# Altium footprint library IO-testing-mezzanine.PcbLib: 12 footprints
Each footprint in its own frame and in the unit in brackets; x right, y up, seen from the top. Pads: shape width x height; smd on the part's side, far side on the other; paste and mask are expansions set on the pad; w line width, h text height; cw(c..) or ccw(c..) is an arc to the next point about the centre after c.
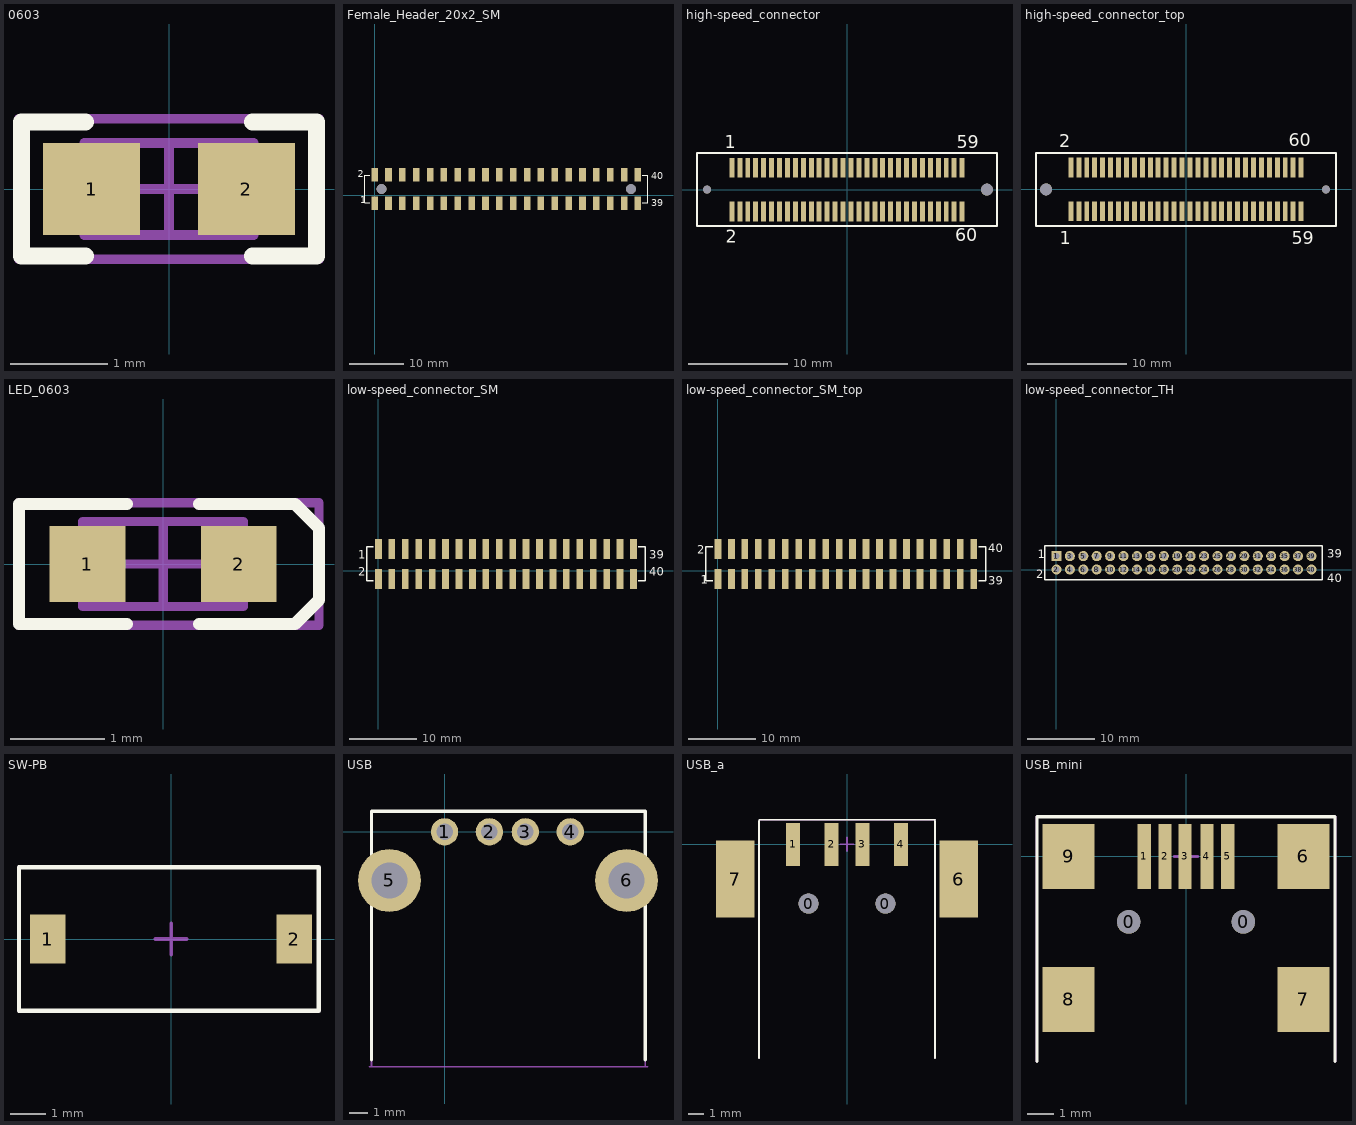
[diagram p0: the footprints below, top view; thin cyan lines are the x and y axes]

## 0603 [mm]
pads (2):
  rect 1x0.95 smd: 1(-0.8,0) 2(0.8,0)
Top Overlay:
  lines w0.178: -0.864,-0.691 -1.524,-0.691 -1.524,0.693 -0.864,0.693 ; 0.864,-0.691 1.524,-0.691 1.524,0.693 0.864,0.693
Mechanical 5:
  lines w0.1: -1.55,-0.725 -1.55,0.725 1.55,0.725 1.55,-0.725 -1.55,-0.725
  text ".Designator" at 0.508,0.381 h0.76
Mechanical 13:
  lines w0.1: -0.55,-0.475 -0.55,0.475 ; 0.55,-0.475 0.55,0.475 ; -0.875,-0.475 0.875,-0.475 0.875,0.475 -0.875,0.475 -0.875,-0.475
Mechanical 15:
  lines w0.1: -0.475,0 0.475,0 ; 0,-0.475 0,0.475 ; -1.55,-0.725 1.55,-0.725 1.55,0.725 -1.55,0.725 -1.55,-0.725
3D body: height 0.85, standoff 0, extent -0.874,-0.474 -0.551,0.474
3D body: height 0.85, standoff 0, extent -0.549,-0.474 0.549,0.474
3D body: height 0.85, standoff 0, extent 0.551,-0.474 0.874,0.474

## Female_Header_20x2_SM [mm] "Surface mount Female header / 2.54mm pitch"
pads (42):
  rect 1.2x2.5 smd: 1(0,-1.5) 2(0,3.76) 3(2.54,-1.5) 4(2.54,3.76) 5(5.08,-1.5) 6(5.08,3.76) 7(7.62,-1.5) 8(7.62,3.76) 9(10.16,-1.5) 10(10.16,3.76) 11(12.7,-1.5) 12(12.7,3.76) 13(15.24,-1.5) 14(15.24,3.76) 15(17.78,-1.5) 16(17.78,3.76) 17(20.32,-1.5) 18(20.32,3.76) 19(22.86,-1.5) 20(22.86,3.76) 21(25.4,-1.5) 22(25.4,3.76) 23(27.94,-1.5) 24(27.94,3.76) 25(30.48,-1.5) 26(30.48,3.76) 27(33.02,-1.5) 28(33.02,3.76) 29(35.56,-1.5) 30(35.56,3.76) 31(38.1,-1.5) 32(38.1,3.76) 33(40.64,-1.5) 34(40.64,3.76) 35(43.18,-1.5) 36(43.18,3.76) 37(45.72,-1.5) 38(45.72,3.76) 39(48.26,-1.5) 40(48.26,3.76)
  round 1.8 hole 1.8 unplated: ""(1.27,1.13) ""(46.99,1.11)
Top Overlay:
  lines w0.2: -0.92,3.683 -1.778,3.683 -1.778,-1.397 -0.87,-1.397 ; 49.09,-1.397 50.038,-1.397 50.038,3.683 49.09,3.683
  text "2" at -3.048,3.302 h1.27
  text "40" at 50.673,2.921 h1.27
  text "39" at 50.673,-2.032 h1.27
  text "1" at -2.667,-1.524 h1.27
3D body "m20-7812045_asm.stp": height 3.55, standoff -1.4, extent -1.27,-2.457 49.53,4.743

## high-speed_connector [mm] "high-speed connector"
pads (62):
  rect 0.5x2 smd: 1(-11.6,2.2) 2(-11.6,-2.2) 3(-10.8,2.2) 4(-10.8,-2.2) 5(-10,2.2) 6(-10,-2.2) 7(-9.2,2.2) 8(-9.2,-2.2) 9(-8.4,2.2) 10(-8.4,-2.2) 11(-7.6,2.2) 12(-7.6,-2.2) 13(-6.8,2.2) 14(-6.8,-2.2) 15(-6,2.2) 16(-6,-2.2) 17(-5.2,2.2) 18(-5.2,-2.2) 19(-4.4,2.2) 20(-4.4,-2.2) 21(-3.6,2.2) 22(-3.6,-2.2) 23(-2.8,2.2) 24(-2.8,-2.2) 25(-2,2.2) 26(-2,-2.2) 27(-1.2,2.2) 28(-1.2,-2.2) 29(-0.4,2.2) 30(-0.4,-2.2) 31(0.4,2.2) 32(0.4,-2.2) 33(1.2,2.2) 34(1.2,-2.2) 35(2,2.2) 36(2,-2.2) 37(2.8,2.2) 38(2.8,-2.2) 39(3.6,2.2) 40(3.6,-2.2) 41(4.4,2.2) 42(4.4,-2.2) 43(5.2,2.2) 44(5.2,-2.2) 45(6,2.2) 46(6,-2.2) 47(6.8,2.2) 48(6.8,-2.2) 49(7.6,2.2) 50(7.6,-2.2) 51(8.4,2.2) 52(8.4,-2.2) 53(9.2,2.2) 54(9.2,-2.2) 55(10,2.2) 56(10,-2.2) 57(10.8,2.2) 58(10.8,-2.2) 59(11.6,2.2) 60(11.6,-2.2)
  round 0.8 hole 0.8 unplated: ""(-14.1,0)
  round 1.2 hole 1.2 unplated: ""(14.1,0)
Top Overlay:
  lines w0.2: -15.113,-3.683 -15.113,3.683 15.113,3.683 15.113,-3.683 -15.113,-3.683
  text "1" at -12.319,4.191 h1.27
  text "59" at 11.049,4.191 h1.27
  text "60" at 10.922,-5.207 h1.27
  text "2" at -12.192,-5.334 h1.27
3D body "s61083-064x0xxx.stp": height 7.65, standoff -0.7, extent -14.9,-3 14.9,3

## high-speed_connector_top [mm] "high-speed connector"
pads (62):
  rect 0.5x2 smd: 1(-11.6,-2.2) 2(-11.6,2.2) 3(-10.8,-2.2) 4(-10.8,2.2) 5(-10,-2.2) 6(-10,2.2) 7(-9.2,-2.2) 8(-9.2,2.2) 9(-8.4,-2.2) 10(-8.4,2.2) 11(-7.6,-2.2) 12(-7.6,2.2) 13(-6.8,-2.2) 14(-6.8,2.2) 15(-6,-2.2) 16(-6,2.2) 17(-5.2,-2.2) 18(-5.2,2.2) 19(-4.4,-2.2) 20(-4.4,2.2) 21(-3.6,-2.2) 22(-3.6,2.2) 23(-2.8,-2.2) 24(-2.8,2.2) 25(-2,-2.2) 26(-2,2.2) 27(-1.2,-2.2) 28(-1.2,2.2) 29(-0.4,-2.2) 30(-0.4,2.2) 31(0.4,-2.2) 32(0.4,2.2) 33(1.2,-2.2) 34(1.2,2.2) 35(2,-2.2) 36(2,2.2) 37(2.8,-2.2) 38(2.8,2.2) 39(3.6,-2.2) 40(3.6,2.2) 41(4.4,-2.2) 42(4.4,2.2) 43(5.2,-2.2) 44(5.2,2.2) 45(6,-2.2) 46(6,2.2) 47(6.8,-2.2) 48(6.8,2.2) 49(7.6,-2.2) 50(7.6,2.2) 51(8.4,-2.2) 52(8.4,2.2) 53(9.2,-2.2) 54(9.2,2.2) 55(10,-2.2) 56(10,2.2) 57(10.8,-2.2) 58(10.8,2.2) 59(11.6,-2.2) 60(11.6,2.2)
  round 1.2 hole 1.2 unplated: ""(-14.1,0)
  round 0.8 hole 0.8 unplated: ""(14.1,0)
Top Overlay:
  lines w0.2: -15.113,-3.683 15.113,-3.683 15.113,3.683 -15.113,3.683 -15.113,-3.683
  text "2" at -12.782,4.236 h1.27
  text "60" at 10.332,4.363 h1.27
  text "59" at 10.659,-5.549 h1.27
  text "1" at -12.709,-5.549 h1.27
3D body "s61082-062x0xxx.stp": height 7.65, standoff -0.7, extent -14.9,-3.38 14.9,3.42

## LED_0603 [mm] "Chip LED, 2-Leads, Body 1.6x0.8mm, IPC Medium Density"
height 0.68
pads (2):
  rect 0.8x0.8 smd: 1(-0.8,0) 2(0.8,0)
Top Overlay:
  lines w0.127: -0.381,-0.635 -1.524,-0.635 -1.524,0.635 -0.381,0.635 ; 0.381,-0.635 1.397,-0.635 1.651,-0.381 1.651,0.381 1.397,0.635 0.381,0.635
Mechanical 13:
  lines w0.1: -0.85,-0.45 0.85,-0.45 0.85,0.45 -0.85,0.45 -0.85,-0.45
Mechanical 15:
  lines w0.1: -0.45,0 0.45,0 ; 0,-0.45 0,0.45 ; -1.525,-0.65 1.651,-0.65 1.651,0.65 -1.525,0.65 -1.525,-0.65
3D body "WL-SMCW_0603_LED.stp": height 0.7, standoff 0, extent -0.8,-0.4 0.8,0.4

## low-speed_connector_SM [mm] "Surface mount low-speed connector / 2mm pitch"
pads (40):
  rect 1x3 smd: 1(0,3.25) 2(0,-1.25) 3(2,3.25) 4(2,-1.25) 5(4,3.25) 6(4,-1.25) 7(6,3.25) 8(6,-1.25) 9(8,3.25) 10(8,-1.25) 11(10,3.25) 12(10,-1.25) 13(12,3.25) 14(12,-1.25) 15(14,3.25) 16(14,-1.25) 17(16,3.25) 18(16,-1.25) 19(18,3.25) 20(18,-1.25) 21(20,3.25) 22(20,-1.25) 23(22,3.25) 24(22,-1.25) 25(24,3.25) 26(24,-1.25) 27(26,3.25) 28(26,-1.25) 29(28,3.25) 30(28,-1.25) 31(30,3.25) 32(30,-1.25) 33(32,3.25) 34(32,-1.25) 35(34,3.25) 36(34,-1.25) 37(36,3.25) 38(36,-1.25) 39(38,3.25) 40(38,-1.25)
Top Overlay:
  lines w0.2: -0.762,-1.524 -1.778,-1.524 -1.778,3.556 -0.762,3.556 ; 38.735,-1.524 39.751,-1.524 39.751,3.556 38.735,3.556
  text "2" at -3.048,-0.762 h1.27
  text "40" at 40.386,-0.762 h1.27
  text "39" at 40.386,1.778 h1.27
  text "1" at -3.048,1.778 h1.27
3D body: height 0.5, standoff 0, extent 37.746,1.758 38.254,4.298
3D body: height 6, standoff 0, extent 37.746,1.778 38.254,2.286
3D body: height 0.5, standoff 0, extent 37.746,-2.286 38.254,0.254
3D body: height 6, standoff 0, extent 37.746,-0.254 38.254,0.254
3D body: height 0.5, standoff 0, extent 35.746,1.758 36.254,4.298
3D body: height 6, standoff 0, extent 35.746,1.778 36.254,2.286
3D body: height 0.5, standoff 0, extent 35.746,-2.286 36.254,0.254
3D body: height 6, standoff 0, extent 35.746,-0.254 36.254,0.254
3D body: height 0.5, standoff 0, extent 33.746,1.758 34.254,4.298
3D body: height 6, standoff 0, extent 33.746,1.778 34.254,2.286
3D body: height 0.5, standoff 0, extent 33.746,-2.286 34.254,0.254
3D body: height 6, standoff 0, extent 33.746,-0.254 34.254,0.254
3D body: height 0.5, standoff 0, extent 31.746,1.758 32.254,4.298
3D body: height 6, standoff 0, extent 31.746,1.778 32.254,2.286
3D body: height 0.5, standoff 0, extent 31.746,-2.286 32.254,0.254
3D body: height 6, standoff 0, extent 31.746,-0.254 32.254,0.254
3D body: height 0.5, standoff 0, extent 29.746,1.758 30.254,4.298
3D body: height 6, standoff 0, extent 29.746,1.778 30.254,2.286
3D body: height 0.5, standoff 0, extent 29.746,-2.286 30.254,0.254
3D body: height 6, standoff 0, extent 29.746,-0.254 30.254,0.254
3D body: height 0.5, standoff 0, extent 27.746,1.758 28.254,4.298
3D body: height 6, standoff 0, extent 27.746,1.778 28.254,2.286
3D body: height 0.5, standoff 0, extent 27.746,-2.286 28.254,0.254
3D body: height 6, standoff 0, extent 27.746,-0.254 28.254,0.254
3D body: height 0.5, standoff 0, extent 25.746,1.758 26.254,4.298
3D body: height 6, standoff 0, extent 25.746,1.778 26.254,2.286
3D body: height 0.5, standoff 0, extent 25.746,-2.286 26.254,0.254
3D body: height 6, standoff 0, extent 25.746,-0.254 26.254,0.254
3D body: height 0.5, standoff 0, extent 23.746,1.758 24.254,4.298
3D body: height 6, standoff 0, extent 23.746,1.778 24.254,2.286
3D body: height 0.5, standoff 0, extent 23.746,-2.286 24.254,0.254
3D body: height 6, standoff 0, extent 23.746,-0.254 24.254,0.254
3D body: height 0.5, standoff 0, extent 21.746,1.758 22.254,4.298
3D body: height 6, standoff 0, extent 21.746,1.778 22.254,2.286
3D body: height 0.5, standoff 0, extent 21.746,-2.286 22.254,0.254
3D body: height 6, standoff 0, extent 21.746,-0.254 22.254,0.254
3D body: height 0.5, standoff 0, extent 19.746,1.758 20.254,4.298
3D body: height 6, standoff 0, extent 19.746,1.778 20.254,2.286
3D body: height 0.5, standoff 0, extent 19.746,-2.286 20.254,0.254
3D body: height 6, standoff 0, extent 19.746,-0.254 20.254,0.254
3D body: height 0.5, standoff 0, extent 17.746,1.758 18.254,4.298
3D body: height 6, standoff 0, extent 17.746,1.778 18.254,2.286
3D body: height 0.5, standoff 0, extent 17.746,-2.286 18.254,0.254
3D body: height 6, standoff 0, extent 17.746,-0.254 18.254,0.254
3D body: height 0.5, standoff 0, extent 15.746,1.758 16.254,4.298
3D body: height 6, standoff 0, extent 15.746,1.778 16.254,2.286
3D body: height 0.5, standoff 0, extent 15.746,-2.286 16.254,0.254
3D body: height 6, standoff 0, extent 15.746,-0.254 16.254,0.254
3D body: height 0.5, standoff 0, extent 13.746,1.758 14.254,4.298
3D body: height 6, standoff 0, extent 13.746,1.778 14.254,2.286
3D body: height 0.5, standoff 0, extent 13.746,-2.286 14.254,0.254
3D body: height 6, standoff 0, extent 13.746,-0.254 14.254,0.254
3D body: height 0.5, standoff 0, extent 11.746,1.758 12.254,4.298
3D body: height 6, standoff 0, extent 11.746,1.778 12.254,2.286
3D body: height 0.5, standoff 0, extent 11.746,-2.286 12.254,0.254
3D body: height 6, standoff 0, extent 11.746,-0.254 12.254,0.254
3D body: height 0.5, standoff 0, extent 9.746,1.758 10.254,4.298
3D body: height 6, standoff 0, extent 9.746,1.778 10.254,2.286
3D body: height 0.5, standoff 0, extent 9.746,-2.286 10.254,0.254
3D body: height 6, standoff 0, extent 9.746,-0.254 10.254,0.254
3D body: height 0.5, standoff 0, extent 7.746,1.758 8.254,4.298
3D body: height 6, standoff 0, extent 7.746,1.778 8.254,2.286
3D body: height 0.5, standoff 0, extent 7.746,-2.286 8.254,0.254
3D body: height 6, standoff 0, extent 7.746,-0.254 8.254,0.254
3D body: height 0.5, standoff 0, extent 5.746,1.758 6.254,4.298
3D body: height 6, standoff 0, extent 5.746,1.778 6.254,2.286
3D body: height 0.5, standoff 0, extent 5.746,-2.286 6.254,0.254
3D body: height 6, standoff 0, extent 5.746,-0.254 6.254,0.254
3D body: height 0.5, standoff 0, extent 3.746,1.758 4.254,4.298
3D body: height 6, standoff 0, extent 3.746,1.778 4.254,2.286
3D body: height 0.5, standoff 0, extent 3.746,-2.286 4.254,0.254
3D body: height 6, standoff 0, extent 3.746,-0.254 4.254,0.254
3D body: height 0.5, standoff 0, extent 1.746,1.758 2.254,4.298
3D body: height 6, standoff 0, extent 1.746,1.778 2.254,2.286
3D body: height 0.5, standoff 0, extent 1.746,-2.286 2.254,0.254
3D body: height 6, standoff 0, extent 1.746,-0.254 2.254,0.254
3D body: height 6, standoff 0, extent -0.254,1.778 0.254,2.286
3D body: height 6, standoff 0, extent -0.254,-0.254 0.254,0.254
3D body: height 2.5, standoff 1, extent -1.651,-1.397 39.624,3.429
3D body: height 0.5, standoff 0, extent -0.254,-2.286 0.254,0.254
3D body: height 0.5, standoff 0, extent -0.254,1.758 0.254,4.298

## low-speed_connector_SM_top [mm] "Surface mount low-speed connector / 2mm pitch"
pads (40):
  rect 1x3 smd: 1(0,-1.25) 2(0,3.25) 3(2,-1.25) 4(2,3.25) 5(4,-1.25) 6(4,3.25) 7(6,-1.25) 8(6,3.25) 9(8,-1.25) 10(8,3.25) 11(10,-1.25) 12(10,3.25) 13(12,-1.25) 14(12,3.25) 15(14,-1.25) 16(14,3.25) 17(16,-1.25) 18(16,3.25) 19(18,-1.25) 20(18,3.25) 21(20,-1.25) 22(20,3.25) 23(22,-1.25) 24(22,3.25) 25(24,-1.25) 26(24,3.25) 27(26,-1.25) 28(26,3.25) 29(28,-1.25) 30(28,3.25) 31(30,-1.25) 32(30,3.25) 33(32,-1.25) 34(32,3.25) 35(34,-1.25) 36(34,3.25) 37(36,-1.25) 38(36,3.25) 39(38,-1.25) 40(38,3.25)
Top Overlay:
  lines w0.2: -0.762,-1.524 -1.778,-1.524 -1.778,3.556 -0.762,3.556 ; 38.735,-1.524 39.751,-1.524 39.751,3.556 38.735,3.556
  text "2" at -3.11,2.49 h1.27
  text "40" at 40.18,2.77 h1.27
  text "39" at 40.15,-2.05 h1.27
  text "1" at -2.58,-1.91 h1.27
3D body "felame_header_SMD.STEP": height 4.5, standoff 0, extent -0.97,-1.79 39.03,3.773

## low-speed_connector_TH [mm] "through hole low-speed connector / 2mm pitch"
pads (40):
  rect 1.5x1.5 hole 0.9: 1(0,2)
  round 1.5 hole 0.9: 2(0,0) 3(2,2) 4(2,0) 5(4,2) 6(4,0) 7(6,2) 8(6,0) 9(8,2) 10(8,0) 11(10,2) 12(10,0) 13(12,2) 14(12,0) 15(14,2) 16(14,0) 17(16,2) 18(16,0) 19(18,2) 20(18,0) 21(20,2) 22(20,0) 23(22,2) 24(22,0) 25(24,2) 26(24,0) 27(26,2) 28(26,0) 29(28,2) 30(28,0) 31(30,2) 32(30,0) 33(32,2) 34(32,0) 35(34,2) 36(34,0) 37(36,2) 38(36,0) 39(38,2) 40(38,0)
Top Overlay:
  lines w0.2: -1.778,-1.524 39.624,-1.524 39.624,3.556 -1.778,3.556 -1.778,-1.524
  text "1" at -2.794,1.651 h1.27
  text "39" at 40.386,1.778 h1.27
  text "40" at 40.386,-1.905 h1.27
  text "2" at -3.048,-1.27 h1.27
Bottom Overlay:
  lines w0.2: -1.778,-1.524 -1.778,3.556 39.624,3.556 39.624,-1.524 -1.778,-1.524
  text "1" at -2.794,1.651 h1.27
  text "2" at -2.54,-1.27 h1.27
  text "39" at 42.418,1.778 h1.27
  text "40" at 42.418,-1.905 h1.27
3D body: height 2, standoff 0, extent -1.651,-1.397 39.497,3.429
3D body: height 6, standoff -2, extent -0.254,1.746 0.254,2.254
3D body: height 6, standoff -2, extent -0.254,-0.254 0.254,0.254
3D body: height 6, standoff -2, extent 1.746,-0.254 2.254,0.254
3D body: height 6, standoff -2, extent 1.746,1.746 2.254,2.254
3D body: height 6, standoff -2, extent 3.746,-0.254 4.254,0.254
3D body: height 6, standoff -2, extent 3.746,1.746 4.254,2.254
3D body: height 6, standoff -2, extent 7.746,1.746 8.254,2.254
3D body: height 6, standoff -2, extent 7.746,-0.254 8.254,0.254
3D body: height 6, standoff -2, extent 5.746,-0.254 6.254,0.254
3D body: height 6, standoff -2, extent 5.746,1.746 6.254,2.254
3D body: height 6, standoff -2, extent 11.746,1.746 12.254,2.254
3D body: height 6, standoff -2, extent 11.746,-0.254 12.254,0.254
3D body: height 6, standoff -2, extent 9.746,-0.254 10.254,0.254
3D body: height 6, standoff -2, extent 9.746,1.746 10.254,2.254
3D body: height 6, standoff -2, extent 15.746,1.746 16.254,2.254
3D body: height 6, standoff -2, extent 15.746,-0.254 16.254,0.254
3D body: height 6, standoff -2, extent 13.746,-0.254 14.254,0.254
3D body: height 6, standoff -2, extent 13.746,1.746 14.254,2.254
3D body: height 6, standoff -2, extent 19.746,1.746 20.254,2.254
3D body: height 6, standoff -2, extent 19.746,-0.254 20.254,0.254
3D body: height 6, standoff -2, extent 17.746,-0.254 18.254,0.254
3D body: height 6, standoff -2, extent 17.746,1.746 18.254,2.254
3D body: height 6, standoff -2, extent 23.746,1.746 24.254,2.254
3D body: height 6, standoff -2, extent 23.746,-0.254 24.254,0.254
3D body: height 6, standoff -2, extent 21.746,-0.254 22.254,0.254
3D body: height 6, standoff -2, extent 21.746,1.746 22.254,2.254
3D body: height 6, standoff -2, extent 27.746,1.746 28.254,2.254
3D body: height 6, standoff -2, extent 27.746,-0.254 28.254,0.254
3D body: height 6, standoff -2, extent 25.746,-0.254 26.254,0.254
3D body: height 6, standoff -2, extent 25.746,1.746 26.254,2.254
3D body: height 6, standoff -2, extent 31.746,1.746 32.254,2.254
3D body: height 6, standoff -2, extent 31.746,-0.254 32.254,0.254
3D body: height 6, standoff -2, extent 29.746,-0.254 30.254,0.254
3D body: height 6, standoff -2, extent 29.746,1.746 30.254,2.254
3D body: height 6, standoff -2, extent 35.746,1.746 36.254,2.254
3D body: height 6, standoff -2, extent 35.746,-0.254 36.254,0.254
3D body: height 6, standoff -2, extent 33.746,-0.254 34.254,0.254
3D body: height 6, standoff -2, extent 33.746,1.746 34.254,2.254
3D body: height 6, standoff -2, extent 37.746,-0.254 38.254,0.254
3D body: height 6, standoff -2, extent 37.746,1.746 38.254,2.254

## SW-PB [mm] "Chip LED, 2-Leads, Body 1.6x0.8mm, IPC Medium Density"
height 0.68
pads (2):
  rect 1x1.4 smd: 1(-3.5,0) 2(3.5,0)
Top Overlay:
  lines w0.127: -4.318,-2.032 4.191,-2.032 4.191,2.032 -4.318,2.032 -4.318,-2.032
Mechanical 13:
  lines w0.1: -4.318,-2.032 4.191,-2.032 4.191,2.032 -4.318,2.032 -4.318,-2.032
Mechanical 15:
  lines w0.1: -0.45,0 0.45,0 ; 0,-0.45 0,0.45 ; -4.318,-2.032 4.191,-2.032 4.191,2.032 -4.318,2.032 -4.318,-2.032
3D body "CU35M1G003FP-Z.stp": height 2.35, standoff -0.15, extent -3.65,-1.92 3.65,1.92

## USB [mm]
pads (6):
  round 1.524 hole 0.92: 1(0,0) 2(2.5,0) 3(4.5,0) 4(7,0)
  round 3.5 hole 2: 5(-3.07,-2.71) 6(10.14,-2.71)
Top Overlay:
  lines w0.178: -4.064,-12.7 -4.064,1.143 11.176,1.143 11.176,-12.7
Mechanical 5:
  lines w0.1: -4.064,-12.7 -4.064,1.143 11.176,1.143 11.176,-12.7
  text ".Designator" at 0.508,0.381 h0.76
Mechanical 15:
  lines w0.1: -4.191,-13.081 11.303,-13.081 ; -4.064,-13.081 -4.064,1.143 11.176,1.143 11.176,-13.081 ; -0.475,0 0.475,0 ; 0,-0.475 0,0.475
3D body "M-UE27-AC54-100-REVT1.STEP": height 7.7, standoff -3.05, extent -3.87,-13.081 10.982,0.719

## USB_a [mm] "Mini USB"
height 0.68
pads (8):
  round 1.3 hole 1.3: 0(-2.5,-3.85) 0(2.5,-3.85)
  rect 0.9x2.8 smd: 1(-3.5,0) 2(-1,0) 3(1,0) 4(3.5,0)
  rect 2.5x5 smd: 6(7.25,-2.25) 7(-7.25,-2.25)
Top Overlay:
  lines w0.127: -5.715,-13.9 -5.715,1.524 ; -5.705,1.604 5.725,1.604 ; 5.715,-13.9 5.715,1.524
Mechanical 13:
  lines w0.1: -5.715,-13.9 -5.715,1.524 ; -5.705,1.604 5.725,1.604 ; 5.715,-13.9 5.715,1.524
Mechanical 15:
  lines w0.1: -5.715,-13.9 -5.715,1.524 ; -5.705,1.604 5.725,1.604 ; -0.45,0 0.45,0 ; 0,-0.45 0,0.45 ; 5.715,-13.9 5.715,1.524
3D body "USB-A-S-F-B-SM2.stp": height 7.8, standoff -1.1, extent -8.2,-13.91 8.2,1.09

## USB_mini [mm] "Mini USB"
height 0.68
pads (11):
  round 0.9 hole 0.9: 0(-2.2,-2.51) 0(2.2,-2.51)
  rect 0.5x2.5 smd: 1(-1.6,0) 2(-0.8,0) 3(-0.038,0) 4(0.8,0) 5(1.6,0)
  rect 2x2.5 smd: 6(4.5,0) 7(4.5,-5.48) 8(-4.5,-5.48) 9(-4.5,0)
Top Overlay:
  lines w0.127: -5.715,-7.85 -5.715,1.524 5.715,1.524 5.715,-7.85
Mechanical 13:
  lines w0.1: -5.715,-7.85 -5.715,1.524 5.715,1.524 5.715,-7.85
Mechanical 15:
  lines w0.1: -5.715,-7.85 -5.715,1.524 5.715,1.524 5.715,-7.85 ; -0.45,0 0.45,0 ; 0,-0.45 0,0.45
3D body "UJ2-MABH-1-SMT.SLDPRT": height 3.96, standoff -0.92, extent -4.83,-8.418 4.83,0.962